# Altium schematic symbol library 5013311107.Schlib: 1 symbol
Pins are listed as number, name and electrical type; pins without a type are passive.

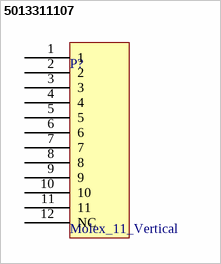
[diagram p0: symbol 5013311107]

## 5013311107
designator P?, comment Molex_11_Vertical
11 Pin Vertical Molex PCB Header
pins: 1, 2, 3, 4, 5, 6, 7, 8, 9, 10, 11, 12 NC